# Altium footprint library R20_PCBM.PcbLib: 22 footprints (part 5 of 5)
Each footprint in its own frame and in the unit in brackets; x right, y up, seen from the top. Pads: shape width x height; smd on the part's side, far side on the other; paste and mask are expansions set on the pad; w line width, h text height; cw(c..) or ccw(c..) is an arc to the next point about the centre after c.
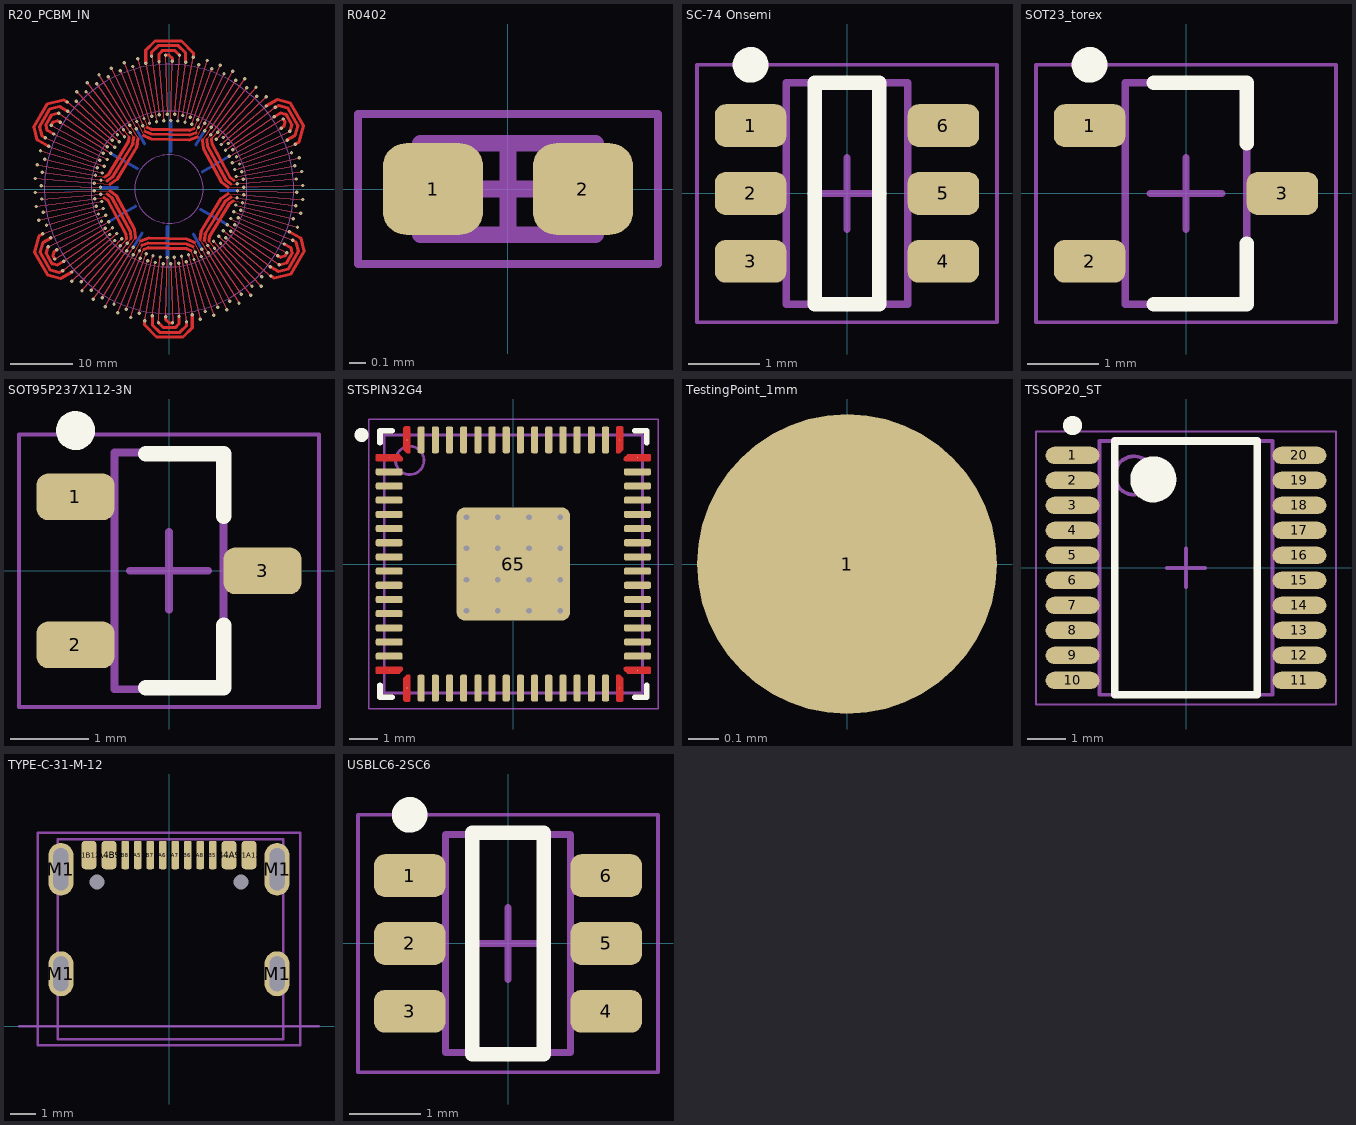
[diagram p4: the footprints below, top view; thin cyan lines are the x and y axes]

## R20_PCBM_IN [mm]
via 21.434,-1.687 diameter 0.55 hole 0.2
via 11.963,-0.942 diameter 0.55 hole 0.2
via 20.493,-0.537 diameter 0.55 hole 0.2
via 10.996,-0.288 diameter 0.55 hole 0.2
via 21.14,-3.918 diameter 0.55 hole 0.2
via 11.799,-2.187 diameter 0.55 hole 0.2
via 20.325,-2.676 diameter 0.55 hole 0.2
via 10.906,-1.436 diameter 0.55 hole 0.2
via 20.615,-6.106 diameter 0.55 hole 0.2
via 11.506,-3.408 diameter 0.55 hole 0.2
via 19.934,-4.786 diameter 0.55 hole 0.2
via 10.696,-2.568 diameter 0.55 hole 0.2
via 19.863,-8.228 diameter 0.55 hole 0.2
via 11.087,-4.592 diameter 0.55 hole 0.2
via 19.324,-6.843 diameter 0.55 hole 0.2
via 10.369,-3.672 diameter 0.55 hole 0.2
via 18.895,-10.259 diameter 0.55 hole 0.2
via 10.546,-5.726 diameter 0.55 hole 0.2
via 18.503,-8.825 diameter 0.55 hole 0.2
via 9.928,-4.736 diameter 0.55 hole 0.2
via 17.719,-12.178 diameter 0.55 hole 0.2
via 9.89,-6.797 diameter 0.55 hole 0.2
via 17.479,-10.711 diameter 0.55 hole 0.2
via 9.379,-5.747 diameter 0.55 hole 0.2
via 16.349,-13.963 diameter 0.55 hole 0.2
via 9.125,-7.793 diameter 0.55 hole 0.2
via 16.264,-12.48 diameter 0.55 hole 0.2
via 8.727,-6.696 diameter 0.55 hole 0.2
via 14.8,-15.596 diameter 0.55 hole 0.2
via 8.26,-8.704 diameter 0.55 hole 0.2
via 14.87,-14.111 diameter 0.55 hole 0.2
via 7.979,-7.572 diameter 0.55 hole 0.2
via 13.088,-17.057 diameter 0.55 hole 0.2
via 7.305,-9.52 diameter 0.55 hole 0.2
via 13.314,-15.588 diameter 0.55 hole 0.2
via 7.144,-8.364 diameter 0.55 hole 0.2
via 11.234,-18.332 diameter 0.55 hole 0.2
via 6.27,-10.232 diameter 0.55 hole 0.2
via 11.611,-16.895 diameter 0.55 hole 0.2
via 6.23,-9.065 diameter 0.55 hole 0.2
via 9.256,-19.406 diameter 0.55 hole 0.2
via 5.166,-10.831 diameter 0.55 hole 0.2
via 9.782,-18.016 diameter 0.55 hole 0.2
via 5.249,-9.667 diameter 0.55 hole 0.2
via 7.177,-20.267 diameter 0.55 hole 0.2
via 4.006,-11.312 diameter 0.55 hole 0.2
via 7.845,-18.94 diameter 0.55 hole 0.2
via 4.21,-10.163 diameter 0.55 hole 0.2
via 5.019,-20.906 diameter 0.55 hole 0.2
via 2.801,-11.668 diameter 0.55 hole 0.2
via 5.822,-19.656 diameter 0.55 hole 0.2
via 3.124,-10.547 diameter 0.55 hole 0.2
via 2.806,-21.316 diameter 0.55 hole 0.2
via 1.566,-11.897 diameter 0.55 hole 0.2
via 3.736,-20.157 diameter 0.55 hole 0.2
via 2.005,-10.816 diameter 0.55 hole 0.2
via 0.563,-21.493 diameter 0.55 hole 0.2
via 0.314,-11.996 diameter 0.55 hole 0.2
via 1.608,-20.437 diameter 0.55 hole 0.2
via 0.863,-10.966 diameter 0.55 hole 0.2
via -1.687,-21.434 diameter 0.55 hole 0.2
via -0.942,-11.963 diameter 0.55 hole 0.2
via -3.918,-21.14 diameter 0.55 hole 0.2
via -2.187,-11.799 diameter 0.55 hole 0.2
via -2.676,-20.325 diameter 0.55 hole 0.2
via -1.436,-10.906 diameter 0.55 hole 0.2
via -6.106,-20.615 diameter 0.55 hole 0.2
via -3.408,-11.506 diameter 0.55 hole 0.2
via -4.786,-19.934 diameter 0.55 hole 0.2
via -2.568,-10.696 diameter 0.55 hole 0.2
via -8.228,-19.863 diameter 0.55 hole 0.2
via -4.592,-11.087 diameter 0.55 hole 0.2
via -6.843,-19.324 diameter 0.55 hole 0.2
via -3.672,-10.369 diameter 0.55 hole 0.2
via -10.259,-18.895 diameter 0.55 hole 0.2
via -5.726,-10.546 diameter 0.55 hole 0.2
via -8.825,-18.503 diameter 0.55 hole 0.2
via -4.736,-9.928 diameter 0.55 hole 0.2
via -0.537,-20.493 diameter 0.55 hole 0.2
via -0.288,-10.996 diameter 0.55 hole 0.2
via -9.256,19.406 diameter 0.55 hole 0.2
via -5.166,10.831 diameter 0.55 hole 0.2
via -9.782,18.016 diameter 0.55 hole 0.2
via -5.249,9.667 diameter 0.55 hole 0.2
via -7.177,20.267 diameter 0.55 hole 0.2
via -4.006,11.312 diameter 0.55 hole 0.2
via -7.845,18.94 diameter 0.55 hole 0.2
via -4.21,10.163 diameter 0.55 hole 0.2
via -5.019,20.906 diameter 0.55 hole 0.2
via -2.801,11.668 diameter 0.55 hole 0.2
via -5.822,19.656 diameter 0.55 hole 0.2
via -3.124,10.547 diameter 0.55 hole 0.2
via -2.806,21.316 diameter 0.55 hole 0.2
via -1.566,11.897 diameter 0.55 hole 0.2
via -3.736,20.157 diameter 0.55 hole 0.2
via -2.005,10.816 diameter 0.55 hole 0.2
via -0.563,21.493 diameter 0.55 hole 0.2
via -0.314,11.996 diameter 0.55 hole 0.2
via -1.608,20.437 diameter 0.55 hole 0.2
via -0.863,10.966 diameter 0.55 hole 0.2
via 1.687,21.434 diameter 0.55 hole 0.2
via 0.942,11.963 diameter 0.55 hole 0.2
via 0.537,20.493 diameter 0.55 hole 0.2
via 0.288,10.996 diameter 0.55 hole 0.2
via 3.918,21.14 diameter 0.55 hole 0.2
via 2.187,11.799 diameter 0.55 hole 0.2
via 2.676,20.325 diameter 0.55 hole 0.2
via 1.436,10.906 diameter 0.55 hole 0.2
via 6.106,20.615 diameter 0.55 hole 0.2
via 3.408,11.506 diameter 0.55 hole 0.2
via 4.786,19.934 diameter 0.55 hole 0.2
via 2.568,10.696 diameter 0.55 hole 0.2
via 8.228,19.863 diameter 0.55 hole 0.2
via 4.592,11.087 diameter 0.55 hole 0.2
via 6.843,19.324 diameter 0.55 hole 0.2
via 3.672,10.369 diameter 0.55 hole 0.2
via 10.259,18.895 diameter 0.55 hole 0.2
via 5.726,10.546 diameter 0.55 hole 0.2
via 8.825,18.503 diameter 0.55 hole 0.2
via 4.736,9.928 diameter 0.55 hole 0.2
via 12.178,17.719 diameter 0.55 hole 0.2
via 6.797,9.89 diameter 0.55 hole 0.2
via 10.711,17.479 diameter 0.55 hole 0.2
via 5.747,9.379 diameter 0.55 hole 0.2
via 13.963,16.349 diameter 0.55 hole 0.2
via 7.793,9.125 diameter 0.55 hole 0.2
via 12.48,16.264 diameter 0.55 hole 0.2
via 6.696,8.727 diameter 0.55 hole 0.2
via 15.596,14.8 diameter 0.55 hole 0.2
via 8.704,8.26 diameter 0.55 hole 0.2
via 14.111,14.87 diameter 0.55 hole 0.2
via 7.572,7.979 diameter 0.55 hole 0.2
via 17.057,13.088 diameter 0.55 hole 0.2
via 9.52,7.305 diameter 0.55 hole 0.2
via 15.588,13.314 diameter 0.55 hole 0.2
via 8.364,7.144 diameter 0.55 hole 0.2
via 18.332,11.234 diameter 0.55 hole 0.2
via 10.232,6.27 diameter 0.55 hole 0.2
via 16.895,11.611 diameter 0.55 hole 0.2
via 9.065,6.23 diameter 0.55 hole 0.2
via 19.406,9.256 diameter 0.55 hole 0.2
via 10.831,5.166 diameter 0.55 hole 0.2
via 20.267,7.177 diameter 0.55 hole 0.2
via 11.312,4.006 diameter 0.55 hole 0.2
via 18.94,7.845 diameter 0.55 hole 0.2
via 10.163,4.21 diameter 0.55 hole 0.2
via 20.906,5.019 diameter 0.55 hole 0.2
via 11.668,2.801 diameter 0.55 hole 0.2
via 19.656,5.822 diameter 0.55 hole 0.2
via 10.547,3.124 diameter 0.55 hole 0.2
via 21.316,2.806 diameter 0.55 hole 0.2
via 11.897,1.566 diameter 0.55 hole 0.2
via 20.157,3.736 diameter 0.55 hole 0.2
via 10.816,2.005 diameter 0.55 hole 0.2
via 21.493,0.563 diameter 0.55 hole 0.2
via 11.996,0.314 diameter 0.55 hole 0.2
via 20.437,1.608 diameter 0.55 hole 0.2
via 10.966,0.863 diameter 0.55 hole 0.2
via 18.016,9.782 diameter 0.55 hole 0.2
via 9.667,5.249 diameter 0.55 hole 0.2
via -13.963,-16.349 diameter 0.55 hole 0.2
via -21.316,-2.806 diameter 0.55 hole 0.2
via -18.332,-11.234 diameter 0.55 hole 0.2
via -15.596,-14.8 diameter 0.55 hole 0.2
via -14.111,-14.87 diameter 0.55 hole 0.2
via -17.057,-13.088 diameter 0.55 hole 0.2
via -15.588,-13.314 diameter 0.55 hole 0.2
via -16.895,-11.611 diameter 0.55 hole 0.2
via -19.406,-9.256 diameter 0.55 hole 0.2
via -18.016,-9.782 diameter 0.55 hole 0.2
via -20.267,-7.177 diameter 0.55 hole 0.2
via -18.94,-7.845 diameter 0.55 hole 0.2
via -20.906,-5.019 diameter 0.55 hole 0.2
via -20.325,2.676 diameter 0.55 hole 0.2
via -20.157,-3.736 diameter 0.55 hole 0.2
via -21.493,-0.563 diameter 0.55 hole 0.2
via -20.437,-1.608 diameter 0.55 hole 0.2
via -19.934,4.786 diameter 0.55 hole 0.2
via -21.434,1.687 diameter 0.55 hole 0.2
via -19.324,6.843 diameter 0.55 hole 0.2
via -21.14,3.918 diameter 0.55 hole 0.2
via -18.503,8.825 diameter 0.55 hole 0.2
via -20.615,6.106 diameter 0.55 hole 0.2
via -10.996,0.288 diameter 0.55 hole 0.2
via -19.863,8.228 diameter 0.55 hole 0.2
via -10.906,1.436 diameter 0.55 hole 0.2
via -20.493,0.537 diameter 0.55 hole 0.2
via -10.696,2.568 diameter 0.55 hole 0.2
via -10.711,-17.479 diameter 0.55 hole 0.2
via -12.178,-17.719 diameter 0.55 hole 0.2
via -12.48,-16.264 diameter 0.55 hole 0.2
via -19.656,-5.822 diameter 0.55 hole 0.2
via -8.727,6.696 diameter 0.55 hole 0.2
via -7.979,7.572 diameter 0.55 hole 0.2
via -11.087,4.592 diameter 0.55 hole 0.2
via -7.144,8.364 diameter 0.55 hole 0.2
via -10.546,5.726 diameter 0.55 hole 0.2
via -6.23,9.065 diameter 0.55 hole 0.2
via -9.89,6.797 diameter 0.55 hole 0.2
via -9.125,7.793 diameter 0.55 hole 0.2
via -18.895,10.259 diameter 0.55 hole 0.2
via -16.349,13.963 diameter 0.55 hole 0.2
via -17.479,10.711 diameter 0.55 hole 0.2
via -16.264,12.48 diameter 0.55 hole 0.2
via -17.719,12.178 diameter 0.55 hole 0.2
via -11.897,-1.566 diameter 0.55 hole 0.2
via -10.163,-4.21 diameter 0.55 hole 0.2
via -11.668,-2.801 diameter 0.55 hole 0.2
via -10.547,-3.124 diameter 0.55 hole 0.2
via -10.816,-2.005 diameter 0.55 hole 0.2
via -11.996,-0.314 diameter 0.55 hole 0.2
via -10.966,-0.863 diameter 0.55 hole 0.2
via -10.369,3.672 diameter 0.55 hole 0.2
via -11.963,0.942 diameter 0.55 hole 0.2
via -9.928,4.736 diameter 0.55 hole 0.2
via -11.799,2.187 diameter 0.55 hole 0.2
via -11.506,3.408 diameter 0.55 hole 0.2
via -5.747,-9.379 diameter 0.55 hole 0.2
via -6.797,-9.89 diameter 0.55 hole 0.2
via -7.793,-9.125 diameter 0.55 hole 0.2
via -6.696,-8.727 diameter 0.55 hole 0.2
via -8.704,-8.26 diameter 0.55 hole 0.2
via -7.572,-7.979 diameter 0.55 hole 0.2
via -9.52,-7.305 diameter 0.55 hole 0.2
via -8.364,-7.144 diameter 0.55 hole 0.2
via -10.232,-6.27 diameter 0.55 hole 0.2
via -9.065,-6.23 diameter 0.55 hole 0.2
via -10.831,-5.166 diameter 0.55 hole 0.2
via -9.667,-5.249 diameter 0.55 hole 0.2
via -11.312,-4.006 diameter 0.55 hole 0.2
via -9.379,5.747 diameter 0.55 hole 0.2
via -8.26,8.704 diameter 0.55 hole 0.2
via -7.305,9.52 diameter 0.55 hole 0.2
via -6.27,10.232 diameter 0.55 hole 0.2
via -11.611,16.895 diameter 0.55 hole 0.2
via -14.8,15.596 diameter 0.55 hole 0.2
via -13.088,17.057 diameter 0.55 hole 0.2
via -11.234,18.332 diameter 0.55 hole 0.2
via -14.87,14.111 diameter 0.55 hole 0.2
via -13.314,15.588 diameter 0.55 hole 0.2
Top Layer:
  lines w0.2: -21.493,-0.563 -9.497,-0.249 ; -21.434,1.687 -9.471,0.745 ; -21.316,-2.806 -10.41,-1.371 ; -21.14,3.918 -10.324,1.913 ; -20.906,-5.019 -11.668,-2.801 ; -20.615,6.106 -11.506,3.408 ; -20.493,0.537 -10.996,0.288 ; -20.437,-1.608 -9.969,-0.785 ; -20.325,2.676 -9.914,1.305 ; -20.267,-7.177 -11.312,-4.006 ; -20.157,-3.736 -10.816,-2.005 ; -19.934,4.786 -10.696,2.568 ; -19.863,8.228 -11.087,4.592 ; -19.656,-5.822 -10.547,-3.124 ; -19.406,-9.256 -10.831,-5.166 ; -19.324,6.843 -10.369,3.672 ; -18.94,-7.845 -10.163,-4.21 ; -18.895,10.259 -10.546,5.726 ; -18.503,8.825 -9.928,4.736 ; -18.332,-11.234 -10.232,-6.27 ; -18.016,-9.782 -9.667,-5.249 ; -17.719,12.178 -9.89,6.797 ; -17.479,10.711 -9.379,5.747 ; -17.057,-13.088 -9.52,-7.305 ; -16.895,-11.611 -9.065,-6.23 ; -16.349,13.963 -9.125,7.793 ; -16.264,12.48 -8.727,6.696 ; -15.596,-14.8 -8.704,-8.26 ; -15.588,-13.314 -8.364,-7.144 ; -14.87,14.111 -7.979,7.572 ; -14.8,15.596 -8.26,8.704 ; -14.111,-14.87 -7.572,-7.979 ; -13.963,-16.349 -6.819,-7.984 ; -13.314,15.588 -7.144,8.364 ; -13.088,17.057 -6.392,8.33 ; -12.48,-16.264 -6.088,-7.934 ; -12.178,-17.719 -5.381,-7.829 ; -11.611,16.895 -5.664,8.241 ; -11.234,18.332 -4.964,8.1 ; -10.711,-17.479 -5.747,-9.379 ; -10.259,-18.895 -4.533,-8.349 ; -9.782,18.016 -5.249,9.667 ; -9.256,19.406 -4.09,8.575 ; -8.825,-18.503 -4.305,-9.026 ; -8.228,-19.863 -4.018,-9.701 ; -7.845,18.94 -3.827,9.239 ; -7.177,20.267 -3.505,9.898 ; -6.843,-19.324 -3.672,-10.369 ; -6.106,-20.615 -3.408,-11.506 ; -5.822,19.656 -3.124,10.547 ; -5.019,20.906 -2.801,11.668 ; -4.786,-19.934 -2.568,-10.696 ; -3.918,-21.14 -2.187,-11.799 ; -3.736,20.157 -2.005,10.816 ; -2.806,21.316 -1.566,11.897 ; -2.676,-20.325 -1.436,-10.906 ; -1.687,-21.434 -0.942,-11.963 ; -1.608,20.437 -0.863,10.966 ; -0.563,21.493 -0.314,11.996 ; -0.537,-20.493 -0.288,-10.996 ; 0.288,10.996 0.537,20.493 ; 0.314,-11.996 0.563,-21.493 ; 0.863,-10.966 1.608,-20.437 ; 0.942,11.963 1.687,21.434 ; 1.436,10.906 2.676,20.325 ; 1.566,-11.897 2.806,-21.316 ; 2.005,-10.816 3.736,-20.157 ; 2.187,11.799 3.918,21.14 ; 2.568,10.696 4.786,19.934 ; 2.801,-11.668 5.019,-20.906 ; 3.124,-10.547 5.822,-19.656 ; 3.408,11.506 6.106,20.615 ; 3.505,-9.898 7.177,-20.267 ; 3.672,10.369 6.843,19.324 ; 3.827,-9.239 7.845,-18.94 ; 4.018,9.701 8.228,19.863 ; 4.09,-8.575 9.256,-19.406 ; 4.305,9.026 8.825,18.503 ; 4.533,8.349 10.259,18.895 ; 4.964,-8.1 11.234,-18.332 ; 5.249,-9.667 9.782,-18.016 ; 5.381,7.829 12.178,17.719 ; 5.664,-8.241 11.611,-16.895 ; 5.747,9.379 10.711,17.479 ; 6.088,7.934 12.48,16.264 ; 6.392,-8.33 13.088,-17.057 ; 6.819,7.984 13.963,16.349 ; 7.144,-8.364 13.314,-15.588 ; 7.572,7.979 14.111,14.87 ; 7.979,-7.572 14.87,-14.111 ; 8.26,-8.704 14.8,-15.596 ; 8.364,7.144 15.588,13.314 ; 8.704,8.26 15.596,14.8 ; 8.727,-6.696 16.264,-12.48 ; 9.065,6.23 16.895,11.611 ; 9.125,-7.793 16.349,-13.963 ; 9.379,-5.747 17.479,-10.711 ; 9.471,-0.745 21.434,-1.687 ; 9.497,0.249 21.493,0.563 ; 9.52,7.305 17.057,13.088 ; 9.667,5.249 18.016,9.782 ; 9.89,-6.797 17.719,-12.178 ; 9.914,-1.305 20.325,-2.676 ; 9.928,-4.736 18.503,-8.825 ; 9.969,0.785 20.437,1.608 ; 10.163,4.21 18.94,7.845 ; 10.232,6.27 18.332,11.234 ; 10.324,-1.913 21.14,-3.918 ; 10.369,-3.672 19.324,-6.843 ; 10.41,1.371 21.316,2.806 ; 10.546,-5.726 18.895,-10.259 ; 10.547,3.124 19.656,5.822 ; 10.696,-2.568 19.934,-4.786 ; 10.816,2.005 20.157,3.736 ; 10.831,5.166 19.406,9.256 ; 10.996,-0.288 20.493,-0.537 ; 11.087,-4.592 19.863,-8.228 ; 11.312,4.006 20.267,7.177 ; 11.506,-3.408 20.615,-6.106 ; 11.668,2.801 20.906,5.019
  lines w0.5: -20.267,-7.177 -20.866,-7.523 -21.568,-10.143 -19.443,-13.824 -17.413,-14.367 -15.588,-13.314 ; -19.863,8.228 -20.407,8.542 -20.794,9.984 -19.169,12.799 -17.562,13.229 -16.264,12.48 ; -19.406,-9.256 -19.704,-10.371 -18.769,-11.991 -17.938,-12.214 -16.895,-11.611 ; -19.324,6.843 -21.149,7.897 -21.693,9.926 -19.568,13.607 -16.948,14.309 -16.349,13.963 ; -18.94,-7.845 -20.238,-8.595 -20.669,-10.201 -19.044,-13.016 -17.601,-13.402 -17.057,-13.088 ; -18.895,10.259 -18.609,10.753 -17.886,10.946 -17.479,10.711 ; -18.503,8.825 -19.546,9.428 -19.769,10.259 -18.834,11.879 -17.719,12.178 ; -18.332,-11.234 -18.617,-10.74 -18.423,-10.017 -18.016,-9.782 ; -10.41,-1.371 -9.833,-1.822 -6.884,-7.254 -6.819,-7.984 ; -10.324,1.913 -9.724,2.334 -6.494,7.604 -6.392,8.33 ; -9.969,-0.785 -9.136,-1.447 -6.189,-6.874 -6.088,-7.934 ; -9.914,1.305 -9.048,1.923 -5.821,7.189 -5.664,8.241 ; -9.497,-0.249 -8.427,-1.109 -5.52,-6.463 -5.381,-7.829 ; -9.471,0.745 -8.358,1.549 -5.174,6.743 -4.964,8.1 ; -4.533,-8.349 -3.253,-7.853 2.837,-8.012 4.09,-8.575 ; -4.305,-9.026 -3.315,-8.636 2.858,-8.797 3.827,-9.239 ; -4.09,8.575 -2.837,8.012 3.253,7.853 4.533,8.349 ; -4.018,-9.701 -3.338,-9.426 2.84,-9.588 3.505,-9.898 ; -3.918,-21.14 -3.918,-21.832 -2,-23.75 2.25,-23.75 3.736,-22.264 3.736,-20.157 ; -3.827,9.239 -2.858,8.797 3.315,8.636 4.305,9.026 ; -3.736,20.157 -3.736,22.264 -2.25,23.75 2,23.75 3.918,21.832 3.918,21.14 ; -3.505,9.898 -2.84,9.588 3.338,9.426 4.018,9.701 ; -2.806,21.316 -2.806,21.944 -1.75,23 1.5,23 2.676,21.824 2.676,20.325 ; -2.676,-20.325 -2.676,-21.824 -1.5,-23 1.75,-23 2.806,-21.944 2.806,-21.316 ; -1.687,-21.434 -0.871,-22.25 1,-22.25 1.608,-21.642 1.608,-20.437 ; -1.608,20.437 -1.608,21.642 -1,22.25 0.871,22.25 1.687,21.434 ; -0.563,21.493 0.007,21.493 0.537,20.963 0.537,20.493 ; -0.537,-20.493 -0.537,-20.963 -0.007,-21.493 0.563,-21.493 ; 4.964,-8.1 5.174,-6.743 8.358,-1.549 9.471,-0.745 ; 5.381,7.829 5.52,6.463 8.427,1.109 9.497,0.249 ; 5.664,-8.241 5.821,-7.189 9.048,-1.923 9.914,-1.305 ; 6.088,7.934 6.189,6.874 9.136,1.447 9.969,0.785 ; 6.392,-8.33 6.494,-7.604 9.724,-2.334 10.324,-1.913 ; 6.819,7.984 6.884,7.254 9.833,1.822 10.41,1.371 ; 15.588,13.314 17.413,14.367 19.443,13.824 21.568,10.143 20.866,7.523 20.267,7.177 ; 16.264,-12.48 17.562,-13.229 19.169,-12.799 20.794,-9.984 20.407,-8.542 19.863,-8.228 ; 16.349,-13.963 16.948,-14.309 19.568,-13.607 21.693,-9.926 21.149,-7.897 19.324,-6.843 ; 16.895,11.611 17.938,12.214 18.769,11.991 19.704,10.371 19.406,9.256 ; 17.057,13.088 17.601,13.402 19.044,13.016 20.669,10.201 20.238,8.595 18.94,7.845 ; 17.479,-10.711 17.886,-10.946 18.609,-10.753 18.895,-10.259 ; 17.719,-12.178 18.834,-11.879 19.769,-10.259 19.546,-9.428 18.503,-8.825 ; 18.016,9.782 18.423,10.017 18.617,10.74 18.332,11.234
Layer 1:
  lines w0.2: -21.493,-0.563 -11.996,-0.314 ; -21.434,1.687 -11.963,0.942 ; -21.316,-2.806 -11.897,-1.566 ; -21.14,3.918 -11.799,2.187 ; -20.906,-5.019 -9.724,-2.334 ; -20.615,6.106 -9.588,2.84 ; -20.493,0.537 -10.996,0.288 ; -20.437,-1.608 -10.966,-0.863 ; -20.325,2.676 -10.906,1.436 ; -20.267,-7.177 -11.312,-4.006 ; -20.157,-3.736 -9.341,-1.731 ; -19.934,4.786 -9.237,2.218 ; -19.863,8.228 -11.087,4.592 ; -19.656,-5.822 -10.068,-2.982 ; -19.406,-9.256 -10.831,-5.166 ; -19.324,6.843 -9.898,3.505 ; -18.94,-7.845 -10.163,-4.21 ; -18.895,10.259 -10.546,5.726 ; -18.503,8.825 -9.928,4.736 ; -18.332,-11.234 -10.232,-6.27 ; -18.016,-9.782 -9.667,-5.249 ; -17.719,12.178 -9.89,6.797 ; -17.479,10.711 -9.379,5.747 ; -17.057,-13.088 -9.52,-7.305 ; -16.895,-11.611 -9.065,-6.23 ; -16.349,13.963 -9.125,7.793 ; -16.264,12.48 -8.727,6.696 ; -15.596,-14.8 -7.254,-6.884 ; -15.588,-13.314 -7.984,-6.819 ; -14.87,14.111 -7.616,7.228 ; -14.8,15.596 -6.884,7.254 ; -14.111,-14.87 -6.539,-6.891 ; -13.963,-16.349 -7.793,-9.125 ; -13.314,15.588 -6.17,7.224 ; -13.088,17.057 -7.305,9.52 ; -12.48,-16.264 -6.696,-8.727 ; -12.178,-17.719 -6.797,-9.89 ; -11.611,16.895 -6.23,9.065 ; -11.234,18.332 -6.27,10.232 ; -10.711,-17.479 -5.747,-9.379 ; -10.259,-18.895 -5.726,-10.546 ; -9.782,18.016 -5.249,9.667 ; -9.256,19.406 -5.166,10.831 ; -8.825,-18.503 -4.736,-9.928 ; -8.228,-19.863 -4.592,-11.087 ; -7.845,18.94 -4.21,10.163 ; -7.177,20.267 -4.006,11.312 ; -6.843,-19.324 -3.171,-8.955 ; -6.106,-20.615 -2.84,-9.588 ; -5.822,19.656 -2.698,9.109 ; -5.019,20.906 -2.334,9.724 ; -4.786,-19.934 -2.451,-10.21 ; -3.918,-21.14 -2.187,-11.799 ; -3.736,20.157 -1.913,10.324 ; -2.806,21.316 -1.566,11.897 ; -2.676,-20.325 -1.436,-10.906 ; -1.687,-21.434 -0.942,-11.963 ; -1.608,20.437 -0.863,10.966 ; -0.563,21.493 -0.314,11.996 ; -0.537,-20.493 -0.288,-10.996 ; 0.288,10.996 0.537,20.493 ; 0.314,-11.996 0.563,-21.493 ; 0.863,-10.966 1.608,-20.437 ; 0.942,11.963 1.687,21.434 ; 1.436,10.906 2.676,20.325 ; 1.566,-11.897 2.806,-21.316 ; 1.913,-10.324 3.736,-20.157 ; 2.187,11.799 3.918,21.14 ; 2.334,-9.724 5.019,-20.906 ; 2.451,10.21 4.786,19.934 ; 2.698,-9.109 5.822,-19.656 ; 2.84,9.588 6.106,20.615 ; 3.171,8.955 6.843,19.324 ; 4.006,-11.312 7.177,-20.267 ; 4.21,-10.163 7.845,-18.94 ; 4.592,11.087 8.228,19.863 ; 4.736,9.928 8.825,18.503 ; 5.166,-10.831 9.256,-19.406 ; 5.249,-9.667 9.782,-18.016 ; 5.726,10.546 10.259,18.895 ; 5.747,9.379 10.711,17.479 ; 6.17,-7.224 13.314,-15.588 ; 6.23,-9.065 11.611,-16.895 ; 6.27,-10.232 11.234,-18.332 ; 6.539,6.891 14.111,14.87 ; 6.696,8.727 12.48,16.264 ; 6.797,9.89 12.178,17.719 ; 6.884,-7.254 14.8,-15.596 ; 7.254,6.884 15.596,14.8 ; 7.305,-9.52 13.088,-17.057 ; 7.616,-7.228 14.87,-14.111 ; 7.793,9.125 13.963,16.349 ; 7.984,6.819 15.588,13.314 ; 8.727,-6.696 16.264,-12.48 ; 9.065,6.23 16.895,11.611 ; 9.125,-7.793 16.349,-13.963 ; 9.237,-2.218 19.934,-4.786 ; 9.341,1.731 20.157,3.736 ; 9.379,-5.747 17.479,-10.711 ; 9.52,7.305 17.057,13.088 ; 9.588,-2.84 20.615,-6.106 ; 9.667,5.249 18.016,9.782 ; 9.724,2.334 20.906,5.019 ; 9.89,-6.797 17.719,-12.178 ; 9.898,-3.505 19.324,-6.843 ; 9.928,-4.736 18.503,-8.825 ; 10.068,2.982 19.656,5.822 ; 10.163,4.21 18.94,7.845 ; 10.232,6.27 18.332,11.234 ; 10.546,-5.726 18.895,-10.259 ; 10.831,5.166 19.406,9.256 ; 10.906,-1.436 20.325,-2.676 ; 10.966,0.863 20.437,1.608 ; 10.996,-0.288 20.493,-0.537 ; 11.087,-4.592 19.863,-8.228 ; 11.312,4.006 20.267,7.177 ; 11.799,-2.187 21.14,-3.918 ; 11.897,1.566 21.316,2.806 ; 11.963,-0.942 21.434,-1.687 ; 11.996,0.314 21.493,0.563
  lines w0.5: -21.14,3.918 -21.838,4.321 -22.818,7.978 -18.318,15.772 -14.562,16.779 -14.129,16.529 -13.314,15.588 ; -20.906,-5.019 -21.364,-5.284 -22.044,-7.819 -17.794,-15.181 -15.646,-15.756 -14.111,-14.87 ; -20.622,6.132 -20.903,6.295 -21.269,7.661 -17.269,14.589 -16.196,14.877 -14.87,14.111 ; -20.157,-3.736 -21.379,-3.971 -21.812,-4.221 -22.818,-7.978 -18.318,-15.772 -14.661,-16.752 -13.963,-16.349 ; -19.934,4.786 -21.468,5.672 -22.044,7.819 -17.794,15.181 -15.258,15.86 -14.8,15.596 ; -19.656,-5.822 -20.982,-6.588 -21.269,-7.661 -17.269,-14.589 -15.903,-14.955 -15.622,-14.793 ; -10.068,-2.982 -9.426,-3.338 -7.934,-6.088 -7.984,-6.819 ; -9.898,3.505 -9.239,3.827 -7.604,6.494 -7.616,7.228 ; -9.724,-2.334 -8.797,-2.858 -7.189,-5.821 -7.254,-6.884 ; -9.588,2.84 -8.636,3.315 -6.874,6.189 -6.884,7.254 ; -9.341,-1.731 -8.15,-2.414 -6.463,-5.52 -6.539,-6.891 ; -9.237,2.218 -8.012,2.837 -6.166,5.851 -6.17,7.224 ; -7.177,20.267 -7.177,21.073 -4.5,23.75 4.5,23.75 7.25,21 7.25,20.5 6.843,19.324 ; -6.843,-19.324 -7.25,-20.5 -7.25,-21 -4.5,-23.75 4.5,-23.75 7.177,-21.073 7.177,-20.267 ; -6.106,-20.615 -6.106,-21.144 -4.25,-23 4.25,-23 5.822,-21.428 5.822,-19.656 ; -5.822,19.656 -5.822,21.428 -4.25,23 4.25,23 6.106,21.144 6.106,20.615 ; -5,20.925 -5,21.25 -4,22.25 4,22.25 4.786,21.464 4.786,19.934 ; -4.786,-19.934 -4.786,-21.464 -4,-22.25 4,-22.25 5,-21.25 5,-20.925 ; -3.171,-8.955 -1.984,-8.265 1.549,-8.358 2.698,-9.109 ; -2.84,-9.588 -1.923,-9.048 1.447,-9.136 2.334,-9.724 ; -2.698,9.109 -1.549,8.358 1.984,8.265 3.171,8.955 ; -2.451,-10.21 -1.822,-9.833 1.305,-9.914 1.913,-10.324 ; -2.334,9.724 -1.447,9.136 1.923,9.048 2.84,9.588 ; -1.913,10.324 -1.305,9.914 1.822,9.833 2.451,10.21 ; 6.17,-7.224 6.166,-5.851 8.012,-2.837 9.237,-2.218 ; 6.539,6.891 6.463,5.52 8.15,2.414 9.341,1.731 ; 6.884,-7.254 6.874,-6.189 8.636,-3.315 9.588,-2.84 ; 7.254,6.884 7.189,5.821 8.797,2.858 9.724,2.334 ; 7.616,-7.228 7.604,-6.494 9.239,-3.827 9.898,-3.505 ; 7.984,6.819 7.934,6.088 9.426,3.338 10.068,2.982 ; 13.314,-15.588 14.129,-16.529 14.562,-16.779 18.318,-15.772 22.818,-7.978 21.838,-4.321 21.14,-3.918 ; 13.963,16.349 14.661,16.752 18.318,15.772 22.818,7.978 21.812,4.221 21.379,3.971 20.157,3.736 ; 14.111,14.87 15.646,15.756 17.794,15.181 22.044,7.819 21.364,5.284 20.906,5.019 ; 14.8,-15.596 15.258,-15.86 17.794,-15.181 22.044,-7.819 21.468,-5.672 19.934,-4.786 ; 14.87,-14.111 16.196,-14.877 17.269,-14.589 21.269,-7.661 20.903,-6.295 20.622,-6.132 ; 15.622,14.793 15.903,14.955 17.269,14.589 21.269,7.661 20.982,6.588 19.656,5.822
Layer 2:
  lines w0.2: -21.493,-0.563 -11.996,-0.314 ; -21.434,1.687 -11.963,0.942 ; -21.316,-2.806 -11.897,-1.566 ; -21.14,3.918 -11.799,2.187 ; -20.906,-5.019 -11.668,-2.801 ; -20.615,6.106 -11.506,3.408 ; -20.493,0.537 -10.996,0.288 ; -20.437,-1.608 -10.966,-0.863 ; -20.325,2.676 -10.906,1.436 ; -20.267,-7.177 -8.719,-3.088 ; -20.157,-3.736 -10.816,-2.005 ; -19.934,4.786 -10.696,2.568 ; -19.863,8.228 -8.546,3.54 ; -19.656,-5.822 -10.547,-3.124 ; -19.406,-9.256 -9.477,-4.52 ; -19.324,6.843 -10.369,3.672 ; -18.94,-7.845 -9.008,-3.731 ; -18.895,10.259 -9.228,5.01 ; -18.503,8.825 -8.8,4.197 ; -18.332,-11.234 -8.953,-5.486 ; -18.016,-9.782 -9.667,-5.249 ; -17.719,12.178 -8.653,5.947 ; -17.479,10.711 -9.379,5.747 ; -17.057,-13.088 -7.339,-5.631 ; -16.895,-11.611 -8.035,-5.522 ; -16.349,13.963 -7.034,6.007 ; -16.264,12.48 -7.735,5.935 ; -15.596,-14.8 -8.704,-8.26 ; -15.588,-13.314 -8.364,-7.144 ; -14.87,14.111 -7.979,7.572 ; -14.8,15.596 -8.26,8.704 ; -14.111,-14.87 -7.572,-7.979 ; -13.963,-16.349 -7.793,-9.125 ; -13.314,15.588 -7.144,8.364 ; -13.088,17.057 -7.305,9.52 ; -12.48,-16.264 -6.696,-8.727 ; -12.178,-17.719 -6.797,-9.89 ; -11.611,16.895 -6.23,9.065 ; -11.234,18.332 -6.27,10.232 ; -10.711,-17.479 -5.747,-9.379 ; -10.259,-18.895 -5.726,-10.546 ; -9.782,18.016 -5.249,9.667 ; -9.256,19.406 -5.166,10.831 ; -8.825,-18.503 -4.736,-9.928 ; -8.228,-19.863 -4.592,-11.087 ; -7.845,18.94 -4.21,10.163 ; -7.177,20.267 -4.006,11.312 ; -6.843,-19.324 -3.672,-10.369 ; -6.106,-20.615 -3.408,-11.506 ; -5.822,19.656 -3.124,10.547 ; -5.019,20.906 -2.801,11.668 ; -4.786,-19.934 -2.568,-10.696 ; -3.918,-21.14 -1.686,-9.095 ; -3.736,20.157 -2.005,10.816 ; -2.806,21.316 -1.207,9.171 ; -2.676,-20.325 -1.273,-9.667 ; -1.687,-21.434 -0.824,-10.468 ; -1.608,20.437 -0.765,9.72 ; -0.563,21.493 -0.275,10.496 ; -0.537,-20.493 -0.288,-10.996 ; 0.275,-10.496 0.563,-21.493 ; 0.288,10.996 0.537,20.493 ; 0.765,-9.72 1.608,-20.437 ; 0.824,10.468 1.687,21.434 ; 1.207,-9.171 2.806,-21.316 ; 1.273,9.667 2.676,20.325 ; 1.686,9.095 3.918,21.14 ; 2.005,-10.816 3.736,-20.157 ; 2.568,10.696 4.786,19.934 ; 2.801,-11.668 5.019,-20.906 ; 3.124,-10.547 5.822,-19.656 ; 3.408,11.506 6.106,20.615 ; 3.672,10.369 6.843,19.324 ; 4.006,-11.312 7.177,-20.267 ; 4.21,-10.163 7.845,-18.94 ; 4.592,11.087 8.228,19.863 ; 4.736,9.928 8.825,18.503 ; 5.166,-10.831 9.256,-19.406 ; 5.249,-9.667 9.782,-18.016 ; 5.726,10.546 10.259,18.895 ; 5.747,9.379 10.711,17.479 ; 6.23,-9.065 11.611,-16.895 ; 6.27,-10.232 11.234,-18.332 ; 6.696,8.727 12.48,16.264 ; 6.797,9.89 12.178,17.719 ; 7.034,-6.007 16.349,-13.963 ; 7.144,-8.364 13.314,-15.588 ; 7.305,-9.52 13.088,-17.057 ; 7.339,5.631 17.057,13.088 ; 7.572,7.979 14.111,14.87 ; 7.735,-5.935 16.264,-12.48 ; 7.793,9.125 13.963,16.349 ; 7.979,-7.572 14.87,-14.111 ; 8.035,5.522 16.895,11.611 ; 8.26,-8.704 14.8,-15.596 ; 8.364,7.144 15.588,13.314 ; 8.546,-3.54 19.863,-8.228 ; 8.653,-5.947 17.719,-12.178 ; 8.704,8.26 15.596,14.8 ; 8.719,3.088 20.267,7.177 ; 8.8,-4.197 18.503,-8.825 ; 8.953,5.486 18.332,11.234 ; 9.008,3.731 18.94,7.845 ; 9.228,-5.01 18.895,-10.259 ; 9.379,-5.747 17.479,-10.711 ; 9.477,4.52 19.406,9.256 ; 9.667,5.249 18.016,9.782 ; 10.369,-3.672 19.324,-6.843 ; 10.547,3.124 19.656,5.822 ; 10.696,-2.568 19.934,-4.786 ; 10.816,2.005 20.157,3.736 ; 10.906,-1.436 20.325,-2.676 ; 10.966,0.863 20.437,1.608 ; 10.996,-0.288 20.493,-0.537 ; 11.506,-3.408 20.615,-6.106 ; 11.668,2.801 20.906,5.019 ; 11.799,-2.187 21.14,-3.918 ; 11.897,1.566 21.316,2.806 ; 11.963,-0.942 21.434,-1.687 ; 11.996,0.314 21.493,0.563
  lines w0.5: -21.493,-0.563 -22.659,-1.236 -23.943,-6.029 -17.068,-17.937 -12.547,-19.148 -11.423,-18.5 -10.711,-17.479 ; -21.434,1.687 -22.376,2.231 -23.294,5.654 -16.669,17.129 -12.771,18.173 -12.323,17.915 -11.611,16.895 ; -21.316,-2.806 -21.67,-3.011 -22.394,-5.712 -16.019,-16.754 -13.626,-17.395 -13.294,-17.204 -12.48,-16.264 ; -20.493,0.537 -21.733,0.643 -22.857,1.292 -24.068,5.813 -17.193,17.721 -12.4,19.005 -11.234,18.332 ; -20.437,-1.608 -21.677,-1.715 -22.124,-1.973 -23.169,-5.871 -16.544,-17.346 -13.12,-18.263 -12.178,-17.719 ; -20.325,2.676 -21.546,2.911 -21.878,3.103 -22.519,5.496 -16.144,16.538 -13.442,17.262 -13.088,17.057 ; -10.259,-18.895 -10.259,-20.241 -6.75,-23.75 7,-23.75 10.309,-20.441 10.309,-19.143 9.782,-18.016 ; -9.782,18.016 -10.309,19.143 -10.309,20.441 -7,23.75 6.75,23.75 10.259,20.241 10.259,18.895 ; -9.477,-4.52 -9.251,-4.413 -8.91,-4.54 -8.66,-5 -8.74,-5.356 -8.953,-5.486 ; -9.256,19.406 -9.256,20.494 -6.75,23 6.5,23 9.353,20.147 9.353,19.63 8.825,18.503 ; -9.228,5.01 -9.008,4.891 -8.66,5 -8.387,5.446 -8.447,5.806 -8.653,5.947 ; -9.008,-3.731 -8.349,-3.982 -7.887,-4.833 -8.035,-5.522 ; -8.825,-18.503 -9.353,-19.63 -9.353,-20.147 -6.5,-23 6.75,-23 9.256,-20.494 9.256,-19.406 ; -8.8,4.197 -8.129,4.414 -7.623,5.239 -7.735,5.935 ; -8.719,-3.088 -7.765,-3.457 -7.129,-4.629 -7.339,-5.631 ; -8.546,3.54 -7.574,3.859 -6.877,4.996 -7.034,6.007 ; -8.228,-19.863 -8.228,-20.272 -6.25,-22.25 6.5,-22.25 8.252,-20.498 8.252,-20.115 7.845,-18.94 ; -7.845,18.94 -8.252,20.115 -8.252,20.498 -6.5,22.25 6.25,22.25 8.228,20.272 8.228,19.863 ; -1.686,-9.095 -0.888,-8.453 0.445,-8.488 1.207,-9.171 ; -1.273,-9.667 -0.726,-9.221 0.242,-9.247 0.765,-9.72 ; -1.207,9.171 -0.445,8.488 0.888,8.453 1.686,9.095 ; -0.824,-10.468 -0.804,-10.218 -0.523,-9.986 0,-10 0.268,-10.246 0.275,-10.496 ; -0.765,9.72 -0.242,9.247 0.726,9.221 1.273,9.667 ; -0.275,10.496 -0.268,10.246 0,10 0.523,9.986 0.804,10.218 0.824,10.468 ; 7.034,-6.007 6.877,-4.996 7.574,-3.859 8.546,-3.54 ; 7.339,5.631 7.129,4.629 7.765,3.457 8.719,3.088 ; 7.735,-5.935 7.623,-5.239 8.129,-4.414 8.8,-4.197 ; 8.035,5.522 7.887,4.833 8.349,3.982 9.008,3.731 ; 8.653,-5.947 8.447,-5.806 8.387,-5.446 8.66,-5 9.008,-4.891 9.228,-5.01 ; 8.953,5.486 8.74,5.356 8.66,5 8.91,4.54 9.251,4.413 9.477,4.52 ; 10.711,17.479 11.423,18.5 12.547,19.148 17.068,17.937 23.943,6.029 22.659,1.236 21.493,0.563 ; 11.234,-18.332 12.4,-19.005 17.193,-17.721 24.068,-5.813 22.857,-1.292 21.733,-0.643 20.493,-0.537 ; 11.611,-16.895 12.323,-17.915 12.771,-18.173 16.669,-17.129 23.294,-5.654 22.376,-2.231 21.434,-1.687 ; 12.178,17.719 13.12,18.263 16.544,17.346 23.169,5.871 22.124,1.973 21.677,1.715 20.437,1.608 ; 12.48,16.264 13.294,17.204 13.626,17.395 16.019,16.754 22.394,5.712 21.67,3.011 21.316,2.806 ; 13.088,-17.057 13.442,-17.262 16.144,-16.538 22.519,-5.496 21.878,-3.103 21.546,-2.911 20.325,-2.676
Bottom Layer:
  lines w0.2: -21.493,-0.563 -11.996,-0.314 ; -21.434,1.687 -11.963,0.942 ; -21.316,-2.806 -11.897,-1.566 ; -21.14,3.918 -11.799,2.187 ; -20.906,-5.019 -11.668,-2.801 ; -20.615,6.106 -11.506,3.408 ; -20.493,0.537 -10.996,0.288 ; -20.437,-1.608 -10.966,-0.863 ; -20.325,2.676 -10.906,1.436 ; -20.267,-7.177 -11.312,-4.006 ; -20.157,-3.736 -10.816,-2.005 ; -19.934,4.786 -10.696,2.568 ; -19.863,8.228 -11.087,4.592 ; -19.656,-5.822 -10.547,-3.124 ; -19.406,-9.256 -10.831,-5.166 ; -19.324,6.843 -10.369,3.672 ; -18.94,-7.845 -10.163,-4.21 ; -18.895,10.259 -10.546,5.726 ; -18.503,8.825 -9.928,4.736 ; -18.332,-11.234 -10.232,-6.27 ; -18.016,-9.782 -9.667,-5.249 ; -17.719,12.178 -9.89,6.797 ; -17.479,10.711 -9.379,5.747 ; -17.057,-13.088 -9.52,-7.305 ; -16.895,-11.611 -9.065,-6.23 ; -16.349,13.963 -9.125,7.793 ; -16.264,12.48 -8.727,6.696 ; -15.596,-14.8 -8.704,-8.26 ; -15.588,-13.314 -8.364,-7.144 ; -14.87,14.111 -7.979,7.572 ; -14.8,15.596 -8.26,8.704 ; -14.111,-14.87 -7.572,-7.979 ; -13.963,-16.349 -7.793,-9.125 ; -13.314,15.588 -7.144,8.364 ; -13.088,17.057 -7.305,9.52 ; -12.48,-16.264 -6.696,-8.727 ; -12.178,-17.719 -6.797,-9.89 ; -11.611,16.895 -6.23,9.065 ; -11.234,18.332 -6.27,10.232 ; -10.711,-17.479 -5.747,-9.379 ; -10.259,-18.895 -5.726,-10.546 ; -9.782,18.016 -5.249,9.667 ; -9.256,19.406 -5.166,10.831 ; -8.825,-18.503 -4.736,-9.928 ; -8.228,-19.863 -4.592,-11.087 ; -7.845,18.94 -4.21,10.163 ; -7.177,20.267 -4.006,11.312 ; -6.843,-19.324 -3.672,-10.369 ; -6.106,-20.615 -3.408,-11.506 ; -5.822,19.656 -3.124,10.547 ; -5.019,20.906 -2.801,11.668 ; -4.786,-19.934 -2.568,-10.696 ; -3.918,-21.14 -2.187,-11.799 ; -3.736,20.157 -2.005,10.816 ; -2.806,21.316 -1.566,11.897 ; -2.676,-20.325 -1.436,-10.906 ; -1.687,-21.434 -0.942,-11.963 ; -1.608,20.437 -0.863,10.966 ; -0.563,21.493 -0.314,11.996 ; -0.537,-20.493 -0.288,-10.996 ; 0.288,10.996 0.537,20.493 ; 0.314,-11.996 0.563,-21.493 ; 0.863,-10.966 1.608,-20.437 ; 0.942,11.963 1.687,21.434 ; 1.436,10.906 2.676,20.325 ; 1.566,-11.897 2.806,-21.316 ; 2.005,-10.816 3.736,-20.157 ; 2.187,11.799 3.918,21.14 ; 2.568,10.696 4.786,19.934 ; 2.801,-11.668 5.019,-20.906 ; 3.124,-10.547 5.822,-19.656 ; 3.408,11.506 6.106,20.615 ; 3.672,10.369 6.843,19.324 ; 4.006,-11.312 7.177,-20.267 ; 4.21,-10.163 7.845,-18.94 ; 4.592,11.087 8.228,19.863 ; 4.736,9.928 8.825,18.503 ; 5.166,-10.831 9.256,-19.406 ; 5.249,-9.667 9.782,-18.016 ; 5.726,10.546 10.259,18.895 ; 5.747,9.379 10.711,17.479 ; 6.23,-9.065 11.611,-16.895 ; 6.27,-10.232 11.234,-18.332 ; 6.696,8.727 12.48,16.264 ; 6.797,9.89 12.178,17.719 ; 7.144,-8.364 13.314,-15.588 ; 7.305,-9.52 13.088,-17.057 ; 7.572,7.979 14.111,14.87 ; 7.793,9.125 13.963,16.349 ; 7.979,-7.572 14.87,-14.111 ; 8.26,-8.704 14.8,-15.596 ; 8.364,7.144 15.588,13.314 ; 8.704,8.26 15.596,14.8 ; 8.727,-6.696 16.264,-12.48 ; 9.065,6.23 16.895,11.611 ; 9.125,-7.793 16.349,-13.963 ; 9.379,-5.747 17.479,-10.711 ; 9.52,7.305 17.057,13.088 ; 9.667,5.249 18.016,9.782 ; 9.89,-6.797 17.719,-12.178 ; 9.928,-4.736 18.503,-8.825 ; 10.163,4.21 18.94,7.845 ; 10.232,6.27 18.332,11.234 ; 10.369,-3.672 19.324,-6.843 ; 10.546,-5.726 18.895,-10.259 ; 10.547,3.124 19.656,5.822 ; 10.696,-2.568 19.934,-4.786 ; 10.816,2.005 20.157,3.736 ; 10.831,5.166 19.406,9.256 ; 10.906,-1.436 20.325,-2.676 ; 10.966,0.863 20.437,1.608 ; 10.996,-0.288 20.493,-0.537 ; 11.087,-4.592 19.863,-8.228 ; 11.312,4.006 20.267,7.177 ; 11.506,-3.408 20.615,-6.106 ; 11.668,2.801 20.906,5.019 ; 11.799,-2.187 21.14,-3.918 ; 11.897,1.566 21.316,2.806 ; 11.963,-0.942 21.434,-1.687 ; 11.996,0.314 21.493,0.563
  lines w0.5: -10.996,0.288 -8.247,0.216 ; -9.667,-5.249 -5.373,-2.77 ; -9.379,5.747 -5.085,3.268 ; -5.747,-9.379 -4.311,-7.034 ; -5.249,9.667 -3.937,7.25 ; -0.288,-10.996 -0.288,-6.038 ; 0.288,6.038 0.288,10.996 ; 3.937,-7.25 5.249,-9.667 ; 4.311,7.034 5.747,9.379 ; 5.085,-3.268 9.379,-5.747 ; 5.373,2.77 9.667,5.249 ; 8.247,-0.216 10.996,-0.288
Mechanical 1:
  circle w0.2: c0,0 r5.5
  circle w0.2: c0,0 r20
  circle w0.2: c0,0 r12.5

## R0402 [mm] "Chip Resistor, 2-Leads, Body 1.00x0.50mm, IPC Medium Density"
height 0.25
pads (2):
  rrect50% 0.6x0.55 smd mask+0.05: 1(-0.45,0) 2(0.45,0)
Mechanical 13:
  lines w0.1: -0.525,-0.275 -0.525,0.275 0.525,0.275 0.525,-0.275 -0.525,-0.275
Mechanical 15:
  lines w0.05: -0.9,-0.45 -0.9,0.45 0.9,0.45 0.9,-0.45 -0.9,-0.45
  lines w0.1: -0.275,0 0.275,0 ; 0,-0.275 0,0.275
3D body "RESC1005X02N.step": height 0.25, standoff 0, extent -0.525,-0.275 0.525,0.275

## SC-74 Onsemi [mm]
height 1.1
pads (6):
  rrect50% 1x0.6 smd: 1(-1.35,0.95) 2(-1.35,0) 3(-1.35,-0.95) 4(1.35,-0.95) 5(1.35,0) 6(1.35,0.95)
Top Overlay:
  circle w0.25: c-1.35,1.8 r0.125
  lines w0.2: -0.45,-1.55 -0.45,1.55 0.45,1.55 0.45,-1.55 -0.45,-1.55
Mechanical 10:
  lines w0.05: -2.1,-1.8 2.1,-1.8 2.1,1.8 -2.1,1.8 -2.1,-1.8
  lines w0.1: -0.5,0 0.5,0 ; 0,-0.5 0,0.5
Mechanical 14:
  lines w0.1: -0.85,-1.55 -0.85,1.55 0.85,1.55 0.85,-1.55 -0.85,-1.55
3D body "SOT23127P600-8N.step": height 1.1, standoff 0, extent -1.5,-1.55 1.5,1.55

## SOT23_torex [mm] "SOT23, 3-Leads, Body 2.90x2.80mm, Pitch 0.95mm, IPC Medium Density"
height 1.25
pads (3):
  rrect50% 1x0.6 smd: 1(-1.35,0.95) 2(-1.35,-0.95) 3(1.35,0)
Top Overlay:
  circle w0.25: c-1.35,1.8 r0.125
  lines w0.2: -0.45,-1.55 0.85,-1.55 0.85,-0.7 ; -0.45,1.55 0.85,1.55 0.85,0.7
Mechanical 13:
  lines w0.1: -0.85,-1.55 0.85,-1.55 0.85,1.55 -0.85,1.55 -0.85,-1.55
Mechanical 15:
  lines w0.05: -2.1,-1.8 2.1,-1.8 2.1,1.8 -2.1,1.8 -2.1,-1.8
  lines w0.1: -0.5,0 0.5,0 ; 0,-0.5 0,0.5
3D body "SOT95P280X125-3N.step": height 1.25, standoff 0, extent -1.5,-1.55 1.5,1.55

## SOT95P237X112-3N [mm] "SOT23, 3-Leads, Body 2.92x2.37mm, Pitch 0.95mm, IPC Medium Density"
height 1.12
pads (3):
  rrect50% 1x0.6 smd: 1(-1.2,0.95) 2(-1.2,-0.95) 3(1.2,0)
Top Overlay:
  circle w0.25: c-1.2,1.8 r0.125
  lines w0.2: -0.3,-1.5 0.7,-1.5 0.7,-0.7 ; -0.3,1.5 0.7,1.5 0.7,0.7
Mechanical 13:
  lines w0.1: -0.7,-1.52 0.7,-1.52 0.7,1.52 -0.7,1.52 -0.7,-1.52
Mechanical 15:
  lines w0.05: -1.925,-1.75 1.925,-1.75 1.925,1.75 -1.925,1.75 -1.925,-1.75
  lines w0.1: -0.5,0 0.5,0 ; 0,-0.5 0,0.5
3D body "SOT95P237X112-3N.step": height 1.12, standoff 0, extent -1.32,-1.52 1.32,1.52

## STSPIN32G4 [mm] "QFN, 64-Leads, Body 9.00x9.00mm, Pitch 0.50mm, Thermal Pad 4.00x4.00mm, IPC Medium Density"
height 1
pads (65):
  round 0.025 smd: 1(-4.375,3.75) 16(-4.375,-3.75) 17(-3.75,-4.375) 32(3.75,-4.375) 33(4.375,-3.75) 48(4.375,3.75) 49(3.75,4.375) 64(-3.75,4.375)
  rrect50% 0.95x0.25 smd: 2(-4.375,3.25) 3(-4.375,2.75) 4(-4.375,2.25) 5(-4.375,1.75) 6(-4.375,1.25) 7(-4.375,0.75) 8(-4.375,0.25) 9(-4.375,-0.25) 10(-4.375,-0.75) 11(-4.375,-1.25) 12(-4.375,-1.75) 13(-4.375,-2.25) 14(-4.375,-2.75) 15(-4.375,-3.25) 34(4.375,-3.25) 35(4.375,-2.75) 36(4.375,-2.25) 37(4.375,-1.75) 38(4.375,-1.25) 39(4.375,-0.75) 40(4.375,-0.25) 41(4.375,0.25) 42(4.375,0.75) 43(4.375,1.25) 44(4.375,1.75) 45(4.375,2.25) 46(4.375,2.75) 47(4.375,3.25)
  rrect50% 0.25x0.95 smd: 18(-3.25,-4.375) 19(-2.75,-4.375) 20(-2.25,-4.375) 21(-1.75,-4.375) 22(-1.25,-4.375) 23(-0.75,-4.375) 24(-0.25,-4.375) 25(0.25,-4.375) 26(0.75,-4.375) 27(1.25,-4.375) 28(1.75,-4.375) 29(2.25,-4.375) 30(2.75,-4.375) 31(3.25,-4.375) 50(3.25,4.375) 51(2.75,4.375) 52(2.25,4.375) 53(1.75,4.375) 54(1.25,4.375) 55(0.75,4.375) 56(0.25,4.375) 57(-0.25,4.375) 58(-0.75,4.375) 59(-1.25,4.375) 60(-1.75,4.375) 61(-2.25,4.375) 62(-2.75,4.375) 63(-3.25,4.375)
  rrect15% 4x4 smd: 65(0,0)
via -1.65,1.65 diameter 0.5 hole 0.2
via -0.55,1.65 diameter 0.5 hole 0.2
via 0.55,1.65 diameter 0.5 hole 0.2
via 1.65,1.65 diameter 0.5 hole 0.2
via -1.65,0.55 diameter 0.5 hole 0.2
via -0.55,0.55 diameter 0.5 hole 0.2
via 0.55,0.55 diameter 0.5 hole 0.2
via 1.65,0.55 diameter 0.5 hole 0.2
via -0.55,-0.55 diameter 0.5 hole 0.2
via 0.55,-0.55 diameter 0.5 hole 0.2
via 1.65,-0.55 diameter 0.5 hole 0.2
via -1.65,-1.65 diameter 0.5 hole 0.2
via -0.55,-1.65 diameter 0.5 hole 0.2
via 0.55,-1.65 diameter 0.5 hole 0.2
via 1.65,-1.65 diameter 0.5 hole 0.2
via -1.65,-0.55 diameter 0.5 hole 0.2
Top Layer:
  region: 4.8,3.625 4.81,3.625 4.828,3.633 4.842,3.647 4.85,3.665 4.85,3.675 4.85,3.825 4.85,3.835 4.842,3.853 4.828,3.867 4.81,3.875 4.8,3.875 4.05,3.875 4.044,3.875 4.032,3.873 4.021,3.868 4.012,3.862 4.007,3.857 3.925,3.775 3.919,3.769 3.91,3.755 3.903,3.74 3.9,3.723 3.9,3.715 3.9,3.675 3.9,3.665 3.908,3.647 3.922,3.633 3.94,3.625 3.95,3.625
  region: 3.625,4.8 3.625,4.81 3.633,4.828 3.647,4.842 3.665,4.85 3.675,4.85 3.825,4.85 3.835,4.85 3.853,4.842 3.867,4.828 3.875,4.81 3.875,4.8 3.875,4.05 3.875,4.044 3.873,4.032 3.868,4.021 3.862,4.012 3.857,4.007 3.775,3.925 3.769,3.919 3.755,3.91 3.74,3.903 3.723,3.9 3.715,3.9 3.675,3.9 3.665,3.9 3.647,3.908 3.633,3.922 3.625,3.94 3.625,3.95
  region: 4.8,-3.625 4.81,-3.625 4.828,-3.633 4.842,-3.647 4.85,-3.665 4.85,-3.675 4.85,-3.825 4.85,-3.835 4.842,-3.853 4.828,-3.867 4.81,-3.875 4.8,-3.875 4.05,-3.875 4.044,-3.875 4.032,-3.873 4.021,-3.868 4.012,-3.862 4.007,-3.857 3.925,-3.775 3.919,-3.769 3.91,-3.755 3.903,-3.74 3.9,-3.723 3.9,-3.715 3.9,-3.675 3.9,-3.665 3.908,-3.647 3.922,-3.633 3.94,-3.625 3.95,-3.625
  region: 3.625,-4.8 3.625,-4.81 3.633,-4.828 3.647,-4.842 3.665,-4.85 3.675,-4.85 3.825,-4.85 3.835,-4.85 3.853,-4.842 3.867,-4.828 3.875,-4.81 3.875,-4.8 3.875,-4.05 3.875,-4.044 3.873,-4.032 3.868,-4.021 3.862,-4.012 3.857,-4.007 3.775,-3.925 3.769,-3.919 3.755,-3.91 3.74,-3.903 3.723,-3.9 3.715,-3.9 3.675,-3.9 3.665,-3.9 3.647,-3.908 3.633,-3.922 3.625,-3.94 3.625,-3.95
  region: -3.625,-4.8 -3.625,-4.81 -3.633,-4.828 -3.647,-4.842 -3.665,-4.85 -3.675,-4.85 -3.825,-4.85 -3.835,-4.85 -3.853,-4.842 -3.867,-4.828 -3.875,-4.81 -3.875,-4.8 -3.875,-4.05 -3.875,-4.044 -3.873,-4.032 -3.868,-4.021 -3.862,-4.012 -3.857,-4.007 -3.775,-3.925 -3.769,-3.919 -3.755,-3.91 -3.74,-3.903 -3.723,-3.9 -3.715,-3.9 -3.675,-3.9 -3.665,-3.9 -3.647,-3.908 -3.633,-3.922 -3.625,-3.94 -3.625,-3.95
  region: -4.8,-3.625 -4.81,-3.625 -4.828,-3.633 -4.842,-3.647 -4.85,-3.665 -4.85,-3.675 -4.85,-3.825 -4.85,-3.835 -4.842,-3.853 -4.828,-3.867 -4.81,-3.875 -4.8,-3.875 -4.05,-3.875 -4.044,-3.875 -4.032,-3.873 -4.021,-3.868 -4.012,-3.862 -4.007,-3.857 -3.925,-3.775 -3.919,-3.769 -3.91,-3.755 -3.903,-3.74 -3.9,-3.723 -3.9,-3.715 -3.9,-3.675 -3.9,-3.665 -3.908,-3.647 -3.922,-3.633 -3.94,-3.625 -3.95,-3.625
  region: -3.625,4.8 -3.625,4.81 -3.633,4.828 -3.647,4.842 -3.665,4.85 -3.675,4.85 -3.825,4.85 -3.835,4.85 -3.853,4.842 -3.867,4.828 -3.875,4.81 -3.875,4.8 -3.875,4.05 -3.875,4.044 -3.873,4.032 -3.868,4.021 -3.862,4.012 -3.857,4.007 -3.775,3.925 -3.769,3.919 -3.755,3.91 -3.74,3.903 -3.723,3.9 -3.715,3.9 -3.675,3.9 -3.665,3.9 -3.647,3.908 -3.633,3.922 -3.625,3.94 -3.625,3.95
  region: -4.8,3.625 -4.81,3.625 -4.828,3.633 -4.842,3.647 -4.85,3.665 -4.85,3.675 -4.85,3.825 -4.85,3.835 -4.842,3.853 -4.828,3.867 -4.81,3.875 -4.8,3.875 -4.05,3.875 -4.044,3.875 -4.032,3.873 -4.021,3.868 -4.012,3.862 -4.007,3.857 -3.925,3.775 -3.919,3.769 -3.91,3.755 -3.903,3.74 -3.9,3.723 -3.9,3.715 -3.9,3.675 -3.9,3.665 -3.908,3.647 -3.922,3.633 -3.94,3.625 -3.95,3.625
Top Overlay:
  circle w0.25: c-5.35,4.55 r0.125
  lines w0.2: -4.7,-4.275 -4.7,-4.7 -4.275,-4.7 ; -4.7,4.275 -4.7,4.7 -4.275,4.7 ; 4.275,-4.7 4.7,-4.7 4.7,-4.275 ; 4.275,4.7 4.7,4.7 4.7,4.275
Mechanical 13:
  circle w0.1: c-3.65,3.65 r0.5
  lines w0.1: -4.55,-4.55 -4.55,4.55 4.55,4.55 4.55,-4.55 -4.55,-4.55
Mechanical 15:
  lines w0.05: -5.1,-5.1 -5.1,5.1 5.1,5.1 5.1,-5.1 -5.1,-5.1
  lines w0.1: -0.5,0 0.5,0 ; 0,-0.5 0,0.5
3D body "QFN50P900X900X100_HS-65N.step": height 1, standoff 0, extent -4.551,-4.551 4.551,4.551

## TestingPoint_1mm [mm]
pads (1):
  round 1 smd paste-1: 1(0,0)

## TSSOP20_ST [mm] "TSOP, 20-Leads, Body 6.50x4.40mm, Pitch 0.65mm, IPC Medium Density"
height 1.2
pads (20):
  oval 1.4x0.45 smd: 1(-2.95,2.925) 2(-2.95,2.275) 3(-2.95,1.625) 4(-2.95,0.975) 5(-2.95,0.325) 6(-2.95,-0.325) 7(-2.95,-0.975) 8(-2.95,-1.625) 9(-2.95,-2.275) 10(-2.95,-2.925) 11(2.95,-2.925) 12(2.95,-2.275) 13(2.95,-1.625) 14(2.95,-0.975) 15(2.95,-0.325) 16(2.95,0.325) 17(2.95,0.975) 18(2.95,1.625) 19(2.95,2.275) 20(2.95,2.925)
Top Overlay:
  circle w0.6: c-0.85,2.3 r0.3
  circle w0.25: c-2.95,3.7 r0.125
  lines w0.2: -1.85,-3.3 1.85,-3.3 1.85,3.3 -1.85,3.3 -1.85,-3.3
Mechanical 13:
  circle w0.1: c-1.35,2.4 r0.5
  lines w0.1: -2.25,-3.3 2.25,-3.3 2.25,3.3 -2.25,3.3 -2.25,-3.3
Mechanical 15:
  lines w0.05: -3.9,-3.55 3.9,-3.55 3.9,3.55 -3.9,3.55 -3.9,-3.55
  lines w0.1: -0.5,0 0.5,0 ; 0,-0.5 0,0.5
3D body "TSOP65P640X120-20N.step": height 1.2, standoff 0, extent -3.2,-3.3 3.2,3.3

## TYPE-C-31-M-12 [mm] "5A 1 16P Female Type-C SMD  USB Connectors ROHS"
pads (18):
  rrect50% 0.6x1.14 smd: A1B12(-3.2,6.86) A4B9(-2.4,6.86) B1A12(3.2,6.86) B4A9(2.4,6.86)
  rrect50% 0.3x1.14 smd: A5(-1.25,6.86) A6(-0.25,6.86) A7(0.25,6.86) A8(1.25,6.86) B5(1.75,6.86) B6(0.75,6.86) B7(-0.75,6.86) B8(-1.75,6.86)
  rrect50% 0x0 hole 0.6: H(-2.89,5.79) H(2.89,5.79)
  oval 1x1.8 hole 0.6 slot 1.4 at 90 deg: M1(-4.325,2.11) M1(4.325,2.11)
  oval 1x2.1 hole 0.6 slot 1.7 at 90 deg: M1(-4.325,6.29) M1(4.325,6.29)
Mechanical 10:
  lines w0.1: -5.25,-0.75 -5.25,7.75 5.25,7.75 5.25,-0.75 0.52,-0.75 -5.25,-0.75
Mechanical 14:
  lines w0.1: -6,0 6,0 ; -4.445,-0.506 -4.445,7.495 -3.683,7.495 4.572,7.495 4.572,-0.506 -4.445,-0.506
  text "PCB edge" at 5.434,0.267 h0.5
3D body "HRO  TYPE-C-31-M-12.step": height 3.21, standoff -1, extent -4.45,-0.49 4.49,7.41

## USBLC6-2SC6 [mm]
height 1.45
pads (6):
  rrect50% 1x0.6 smd: 1(-1.375,0.95) 2(-1.375,0) 3(-1.375,-0.95) 4(1.375,-0.95) 5(1.375,0) 6(1.375,0.95)
Top Overlay:
  circle w0.25: c-1.375,1.8 r0.125
  lines w0.2: -0.5,-1.55 0.5,-1.55 0.5,1.55 -0.5,1.55 -0.5,-1.55
Mechanical 13:
  lines w0.1: -0.875,-1.525 -0.875,1.525 0.875,1.525 0.875,-1.525 -0.875,-1.525
Mechanical 15:
  lines w0.05: -2.1,-1.8 -2.1,1.8 2.1,1.8 2.1,-1.8 -2.1,-1.8
  lines w0.1: -0.5,0 0.5,0 ; 0,-0.5 0,0.5
3D body "SOT23127P600-8N.step": height 1.45, standoff 0, extent -1.6,-1.525 1.6,1.525